# EAGLE library part OS203013MT7QN1 (library Railstars)
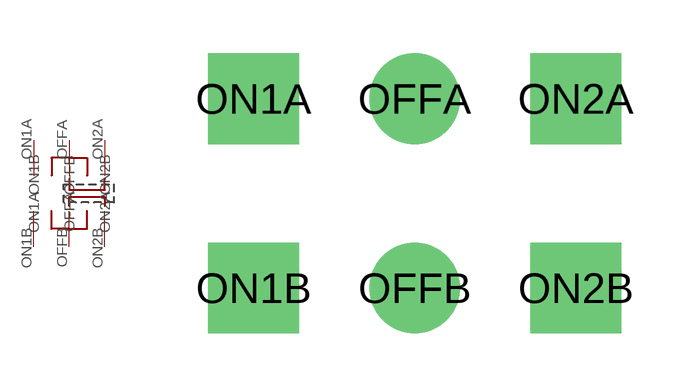
[diagram p27: symbol with the pads of OS203013MT7QN1; footprint OS203013MT7QN1]

Designator prefix -

## OS203013MT7QN1  [OS203013MT7QN1]
OFFA  OFFA
OFFB  OFFB
ON1A  ON1A
ON1B  ON1B
ON2A  ON2A
ON2B  ON2B

## Footprint OS203013MT7QN1 (pad centres in mm)
drill 1.6 pad 2.54: OFFA 0,2.654; OFFB 0,-2.654
drill 1.6 pad 2.54 square: ON1A -4.521,2.654; ON1B -4.521,-2.654; ON2A 4.521,2.654; ON2B 4.521,-2.654